# Altium footprint library lib.PcbLib: 36 footprints (part 2 of 3)
Each footprint in its own frame and in the unit in brackets; x right, y up, seen from the top. Pads: shape width x height; smd on the part's side, far side on the other; paste and mask are expansions set on the pad; w line width, h text height; cw(c..) or ccw(c..) is an arc to the next point about the centre after c.
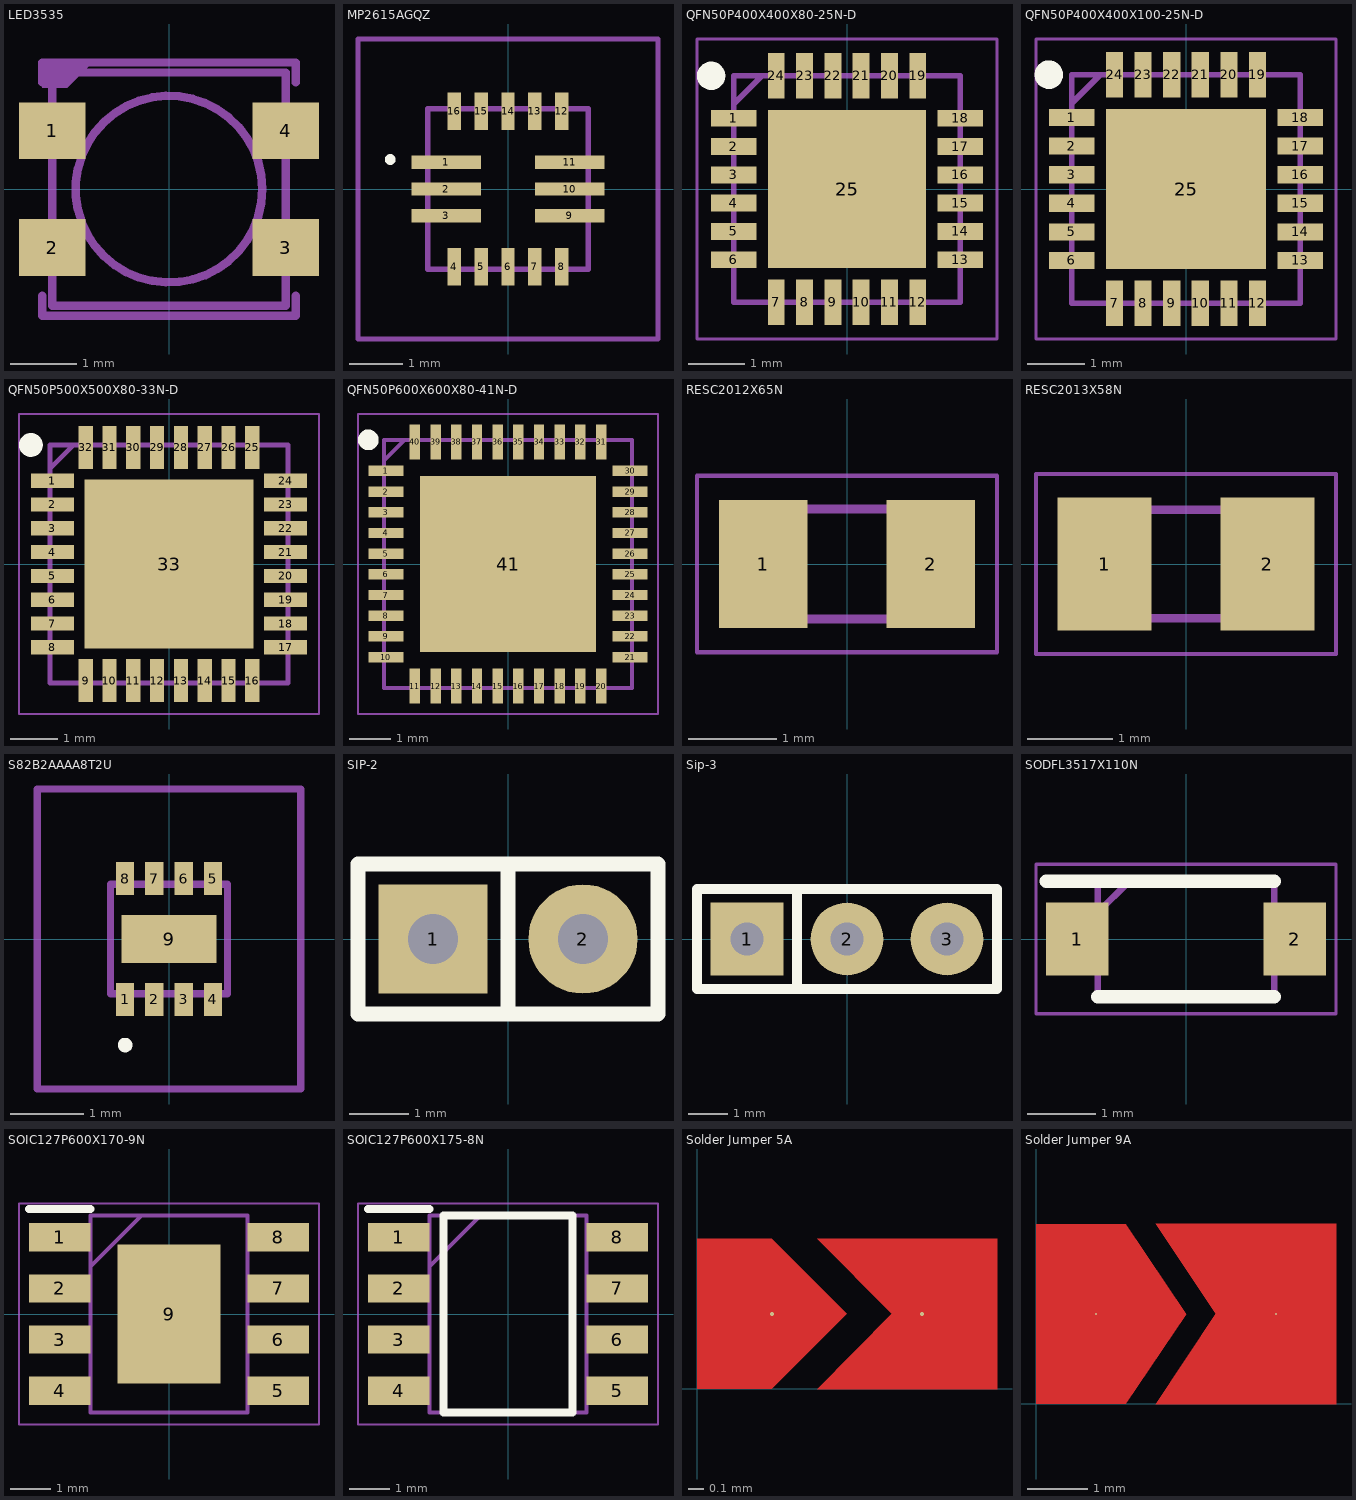
[diagram p1: the footprints below, top view; thin cyan lines are the x and y axes]

## LED3535 [mm]
pads (4):
  rect 1x0.85 smd: 1(-1.75,0.875) 2(-1.75,-0.875) 3(1.75,-0.875) 4(1.75,0.875)
Mechanical 3:
  circle w0.127: c0,0 r1.4
  lines w0.127: -1.75,-1.75 -1.75,1.75 1.75,1.75 1.75,-1.75 -1.75,-1.75
Mechanical 7:
  region: -1.905,1.905 -1.905,1.524 -1.524,1.524 -1.143,1.905
  lines w0.127: -1.9,-1.6 -1.9,-1.9 1.9,-1.9 1.9,-1.6 ; -1.9,1.6 -1.9,1.9 1.9,1.9 1.9,1.6

## MP2615AGQZ [mm]
pads (16):
  rect 1.3x0.25 smd: 1(-1.15,0.5) 2(-1.15,0) 3(-1.15,-0.5) 9(1.15,-0.5) 10(1.15,0) 11(1.15,0.5)
  rect 0.25x0.7 smd: 4(-1,-1.45) 5(-0.5,-1.45) 6(0,-1.45) 7(0.5,-1.45) 8(1,-1.45) 12(1,1.45) 13(0.5,1.45) 14(0,1.45) 15(-0.5,1.45) 16(-1,1.45)
Top Overlay:
  lines w0.1: -2.2,0.5 cw(c-2.2,0.55) -2.2,0.6 cw(c-2.2,0.55) -2.2,0.5
Mechanical 13:
  lines w0.1: -1.5,-1.5 1.5,-1.5 1.5,1.5 -1.5,1.5 -1.5,-1.5
Mechanical 15:
  lines w0.1: -2.8,-2.8 2.8,-2.8 2.8,2.8 -2.8,2.8 -2.8,-2.8
3D body "MP2615AGQ-Z.stp": height 1.1, standoff 0, extent -1.5,-1.5 1.5,1.5

## QFN50P400X400X80-25N-D [mm]
pads (25):
  rect 0.8x0.3 smd: 1(-2,1.25) 2(-2,0.75) 3(-2,0.25) 4(-2,-0.25) 5(-2,-0.75) 6(-2,-1.25) 13(2,-1.25) 14(2,-0.75) 15(2,-0.25) 16(2,0.25) 17(2,0.75) 18(2,1.25)
  rect 0.3x0.8 smd: 7(-1.25,-2) 8(-0.75,-2) 9(-0.25,-2) 10(0.25,-2) 11(0.75,-2) 12(1.25,-2) 19(1.25,2) 20(0.75,2) 21(0.25,2) 22(-0.25,2) 23(-0.75,2) 24(-1.25,2)
  rect 2.8x2.8 smd: 25(0,0)
Top Overlay:
  circle w0.25: c-2.4,2 r0.125
Mechanical 13:
  lines w0.1: -2,1.5 -1.5,2 ; -2,-2 -2,2 2,2 2,-2 -2,-2
Mechanical 15:
  lines w0.05: -2.65,-2.65 -2.65,2.65 2.65,2.65 2.65,-2.65 -2.65,-2.65
3D body "BQ25890RTWT.stp": height 0.8, standoff 0, extent -2,-2 2,2

## QFN50P400X400X100-25N-D [mm]
pads (25):
  rect 0.8x0.3 smd: 1(-2,1.25) 2(-2,0.75) 3(-2,0.25) 4(-2,-0.25) 5(-2,-0.75) 6(-2,-1.25) 13(2,-1.25) 14(2,-0.75) 15(2,-0.25) 16(2,0.25) 17(2,0.75) 18(2,1.25)
  rect 0.3x0.8 smd: 7(-1.25,-2) 8(-0.75,-2) 9(-0.25,-2) 10(0.25,-2) 11(0.75,-2) 12(1.25,-2) 19(1.25,2) 20(0.75,2) 21(0.25,2) 22(-0.25,2) 23(-0.75,2) 24(-1.25,2)
  rect 2.8x2.8 smd: 25(0,0)
Top Overlay:
  circle w0.25: c-2.4,2 r0.125
Mechanical 13:
  lines w0.1: -2,1.5 -1.5,2 ; -2,-2 -2,2 2,2 2,-2 -2,-2
Mechanical 15:
  lines w0.05: -2.625,-2.625 -2.625,2.625 2.625,2.625 2.625,-2.625 -2.625,-2.625
3D body "STUSB4500QTR.stp": height 1, standoff 0, extent -2.05,-2.05 2.05,2.05

## QFN50P500X500X80-33N-D [mm]
pads (33):
  rect 0.9x0.3 smd: 1(-2.45,1.75) 2(-2.45,1.25) 3(-2.45,0.75) 4(-2.45,0.25) 5(-2.45,-0.25) 6(-2.45,-0.75) 7(-2.45,-1.25) 8(-2.45,-1.75) 17(2.45,-1.75) 18(2.45,-1.25) 19(2.45,-0.75) 20(2.45,-0.25) 21(2.45,0.25) 22(2.45,0.75) 23(2.45,1.25) 24(2.45,1.75)
  rect 0.3x0.9 smd: 9(-1.75,-2.45) 10(-1.25,-2.45) 11(-0.75,-2.45) 12(-0.25,-2.45) 13(0.25,-2.45) 14(0.75,-2.45) 15(1.25,-2.45) 16(1.75,-2.45) 25(1.75,2.45) 26(1.25,2.45) 27(0.75,2.45) 28(0.25,2.45) 29(-0.25,2.45) 30(-0.75,2.45) 31(-1.25,2.45) 32(-1.75,2.45)
  rect 3.55x3.55 smd: 33(0,0)
Top Overlay:
  circle w0.25: c-2.9,2.5 r0.125
Mechanical 13:
  lines w0.1: -2.5,2 -2,2.5 ; -2.5,-2.5 -2.5,2.5 2.5,2.5 2.5,-2.5 -2.5,-2.5
Mechanical 15:
  lines w0.05: -3.15,-3.15 -3.15,3.15 3.15,3.15 3.15,-3.15 -3.15,-3.15
3D body "DRV8320HRTVT.stp": height 0.8, standoff 0, extent -2.55,-2.55 2.55,2.55

## QFN50P600X600X80-41N-D [mm]
pads (41):
  rect 0.85x0.25 smd: 1(-2.95,2.25) 2(-2.95,1.75) 3(-2.95,1.25) 4(-2.95,0.75) 5(-2.95,0.25) 6(-2.95,-0.25) 7(-2.95,-0.75) 8(-2.95,-1.25) 9(-2.95,-1.75) 10(-2.95,-2.25) 21(2.95,-2.25) 22(2.95,-1.75) 23(2.95,-1.25) 24(2.95,-0.75) 25(2.95,-0.25) 26(2.95,0.25) 27(2.95,0.75) 28(2.95,1.25) 29(2.95,1.75) 30(2.95,2.25)
  rect 0.25x0.85 smd: 11(-2.25,-2.95) 12(-1.75,-2.95) 13(-1.25,-2.95) 14(-0.75,-2.95) 15(-0.25,-2.95) 16(0.25,-2.95) 17(0.75,-2.95) 18(1.25,-2.95) 19(1.75,-2.95) 20(2.25,-2.95) 31(2.25,2.95) 32(1.75,2.95) 33(1.25,2.95) 34(0.75,2.95) 35(0.25,2.95) 36(-0.25,2.95) 37(-0.75,2.95) 38(-1.25,2.95) 39(-1.75,2.95) 40(-2.25,2.95)
  rect 4.25x4.25 smd: 41(0,0)
Top Overlay:
  circle w0.25: c-3.375,3 r0.125
Mechanical 13:
  lines w0.1: -3,2.5 -2.5,3 ; -3,-3 -3,3 3,3 3,-3 -3,-3
Mechanical 15:
  lines w0.05: -3.625,-3.625 -3.625,3.625 3.625,3.625 3.625,-3.625 -3.625,-3.625
3D body "DRV8323.stp": height 1, standoff 0, extent -3,-3 3,3

## RESC2012X65N [mm]
pads (2):
  rect 1x1.45 smd: 1(-0.95,0) 2(0.95,0)
Mechanical 13:
  lines w0.1: -1,-0.625 1,-0.625 1,0.625 -1,0.625 -1,-0.625
Mechanical 15:
  lines w0.05: -1.7,-1 1.7,-1 1.7,1 -1.7,1 -1.7,-1
3D body "CPF0805B102RE1.stp": height 0.46, standoff 0, extent -0.775,-0.4 0.775,0.4

## RESC2013X58N [mm]
pads (2):
  rect 1.1x1.55 smd: 1(-0.95,0) 2(0.95,0)
Mechanical 13:
  lines w0.1: -1.015,-0.635 -1.015,0.635 1.015,0.635 1.015,-0.635 -1.015,-0.635
Mechanical 15:
  lines w0.05: -1.75,-1.05 -1.75,1.05 1.75,1.05 1.75,-1.05 -1.75,-1.05
3D body "WSLP08057L000FEA18.stp": height 0.36, standoff 0, extent -1.015,-0.635 1.015,0.635

## S82B2AAAA8T2U [mm]
pads (9):
  rect 0.25x0.45 smd: 1(-0.6,-0.825) 2(-0.2,-0.825) 3(0.2,-0.825) 4(0.6,-0.825) 5(0.6,0.825) 6(0.2,0.825) 7(-0.2,0.825) 8(-0.6,0.825)
  rect 1.3x0.65 smd: 9(0,0)
Top Overlay:
  lines w0.1: -0.6,-1.5 cw(c-0.6,-1.45) -0.6,-1.4 cw(c-0.6,-1.45) -0.6,-1.5
Mechanical 13:
  lines w0.1: -0.8,-0.75 -0.8,0.75 0.8,0.75 0.8,-0.75 -0.8,-0.75
Mechanical 15:
  lines w0.1: -1.8,-2.05 -1.8,2.05 1.8,2.05 1.8,-2.05 -1.8,-2.05
3D body "S-82B2AAA-A8T2U.stp": height 0.5, standoff 0, extent -0.8,-0.75 0.8,0.75

## SIP-2 [mm]
pads (2):
  rect 1.85x1.85 hole 0.85: 1(-1.27,0)
  round 1.85 hole 0.85: 2(1.27,0)
Top Overlay:
  lines w0.254: 0,-1.27 0,1.27 ; -2.54,-1.27 -2.54,1.27 2.54,1.27 2.54,-1.27 -2.54,-1.27

## Sip-3 [mm]
pads (3):
  rect 1.85x1.85 hole 0.85: 1(-2.54,0)
  round 1.85 hole 0.85: 2(0,0) 3(2.54,0)
Top Overlay:
  lines w0.254: -1.27,-1.27 -1.27,1.27 ; -3.81,-1.27 3.81,-1.27 3.81,1.27 -3.81,1.27 -3.81,-1.27

## SODFL3517X110N [mm]
pads (2):
  rect 0.92x1.08 smd: 1(-1.6,0) 2(1.6,0)
Top Overlay:
  lines w0.2: -2.06,0.85 1.3,0.85 ; -1.3,-0.85 1.3,-0.85
Mechanical 13:
  lines w0.1: -1.3,0.39 -0.84,0.85 ; -1.3,-0.85 1.3,-0.85 1.3,0.85 -1.3,0.85 -1.3,-0.85
Mechanical 15:
  lines w0.05: -2.21,-1.1 2.21,-1.1 2.21,1.1 -2.21,1.1 -2.21,-1.1
3D body "PMEG3010ER.stp": height 1.07, standoff 0, extent -1.748,-1.089 1.752,0.911

## SOIC127P600X170-9N [mm]
pads (9):
  rect 1.525x0.7 smd: 1(-2.712,1.905) 2(-2.712,0.635) 3(-2.712,-0.635) 4(-2.712,-1.905) 5(2.712,-1.905) 6(2.712,-0.635) 7(2.712,0.635) 8(2.712,1.905)
  rect 2.56x3.45 smd: 9(0,0)
Top Overlay:
  lines w0.2: -3.475,2.605 -1.95,2.605
Mechanical 13:
  lines w0.1: -1.95,1.18 -0.68,2.45 ; -1.95,-2.45 1.95,-2.45 1.95,2.45 -1.95,2.45 -1.95,-2.45
Mechanical 15:
  lines w0.05: -3.725,-2.75 3.725,-2.75 3.725,2.75 -3.725,2.75 -3.725,-2.75
3D body "MP1584EN-LF.stp": height 1.7, standoff 0, extent -3,-2.45 3,2.45

## SOIC127P600X175-8N [mm]
pads (8):
  rect 1.525x0.7 smd: 1(-2.712,1.905) 2(-2.712,0.635) 3(-2.712,-0.635) 4(-2.712,-1.905) 5(2.712,-1.905) 6(2.712,-0.635) 7(2.712,0.635) 8(2.712,1.905)
Top Overlay:
  lines w0.2: -3.475,2.605 -1.95,2.605 ; -1.6,-2.45 -1.6,2.45 1.6,2.45 1.6,-2.45 -1.6,-2.45
Mechanical 13:
  lines w0.1: -1.95,1.18 -0.68,2.45 ; -1.95,-2.45 -1.95,2.45 1.95,2.45 1.95,-2.45 -1.95,-2.45
Mechanical 15:
  lines w0.05: -3.725,-2.75 -3.725,2.75 3.725,2.75 3.725,-2.75 -3.725,-2.75
3D body "IR2101S.stp": height 1.75, standoff 0, extent -3,-2.45 3,2.45

## Solder Jumper 5A [mm]
pads (2):
  round 0.025 smd: 1(0.5,0.5) 2(1.5,0.5)
Top Layer:
  region: 0.8,0 1.3,0.5 0.8,1 2,1 2,0
  region: 0,0 0,1 0.5,1 1,0.5 0.5,0

## Solder Jumper 9A [mm]
pads (2):
  round 0.025 smd: 1(1,1.5) 2(4,1.5)
Top Layer:
  region: 2,0 3,1.5 2,3 5,3 5,0
  region: 0,0 0,3 1.5,3 2.5,1.5 1.5,0